# Altium schematic symbol library Schlib1.SchLib: 16 symbols
Pins are listed as number, name and electrical type; pins without a type are passive.

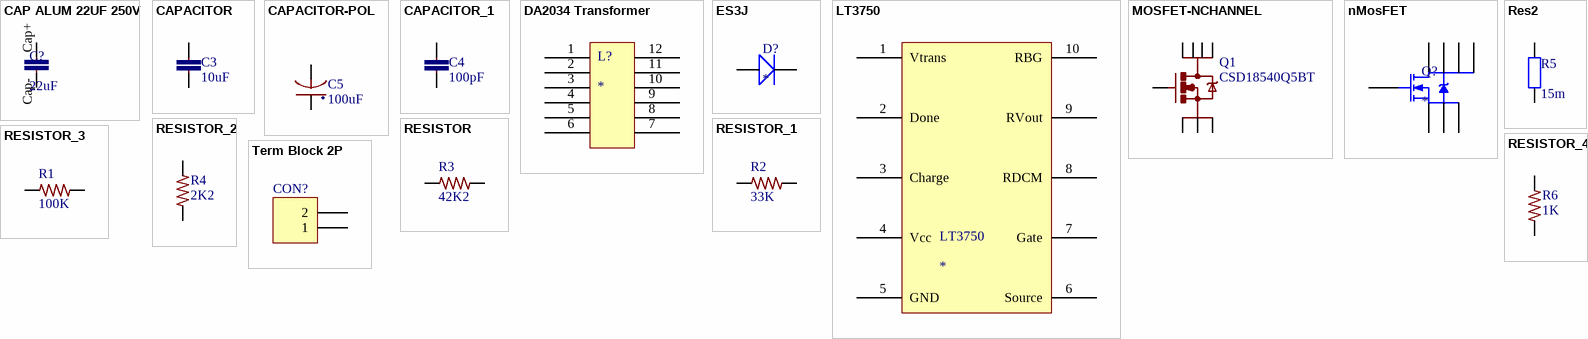
[diagram p0: symbols CAP ALUM 22UF 250V to Term Block 2P]

## CAP ALUM 22UF 250V
designator C?, comment 22uF
footprint CAP ALUM 22UF 250V (22uF)
pins: Cap+, Cap-

## CAPACITOR
designator C3, comment 10uF
CAP CER 10UF 16V X5R 0603; Part No: EMK107BBJ106MA-T; Cod EMS: 05.281.019.592; Value: 10uF
footprint CAPC0603(1608)55_L
simulation model Capacitor
pins: 1, 2

## CAPACITOR-POL
designator C5, comment 100uF
CAP ALUM 100UF 20% 80V SMD
footprint PCBComponent (Panasonic FK Series, Type V)
simulation model Capacitor
pins: 1 +, 2 -

## CAPACITOR_1
designator C4, comment 100pF
CAP CER 100PF 50V NP0 0603; Part No: GRM1885C1H101JA01D; Value: 100pF
footprint CAPC0603(1608)55_L
simulation model Capacitor
pins: 1, 2

## DA2034 Transformer
designator L?
footprint DA2034 Transformer
pins: 1, 2, 3, 4, 5, 6, 7, 8, 9, 10, 11, 12
1 alternate drawing of the same symbol

## ES3J
designator D?
footprint Diode
pins: D1+, D1-

## LT3750
designator LT3750
footprint LT3750
pins: 1 Vtrans, 2 Done, 3 Charge, 4 Vcc, 5 GND, 6 Source, 7 Gate, 8 RDCM, 9 RVout, 10 RBG

## MOSFET-NCHANNEL
designator Q1, comment CSD18540Q5BT
MOSFET N-CH 60V 100A 8VSON; Part No: CSD18540Q5BT
footprint PCBComponent
pins: 1 S, 2 S, 3 S, 4 G, 5 D, 6 D, 7 D, 8 D

## nMosFET
designator Q?
footprint nMOSFET
pins: 1 G, 2 D, 3 D, 4 D, 5 D, 6 S, 7 S, 8 S

## Res2
designator R5, comment 15m
Resistor; Published: 8-Jun-2000; LatestRevisionDate: 17-Jul-2002; LatestRevisionNote: Re-released for DXP Platform.; PackageReference: AXIAL-0.4; Publisher: Altium Limited; PackageDescription: Axial Device, Thru-Hole; 2 Leads; 0.4 in Pin Spacing; Value: 15m
simulation model RESISTOR (Resistor)
signal-integrity model Res
footprint R1206
footprint RES-1206
pins: 1, 2

## RESISTOR
designator R3, comment 42K2
RES 42.2K OHM 1/10W 1% 0402 SMD; Part No: ERJ-2RKF4222X; Value: 42.2K
simulation model SimModel1
footprint 0402-RES-HD (Chip Resistor, Body 1.0x0.5mm, IPC High Density)
pins: 1, 2

## RESISTOR_1
designator R2, comment 33K
RES 33K OHM 1/10W 1% 0402 SMD; Part No: ERJ-2RKF3302X; Cod EMS: 05.280.029.535; Family Description: RESISTOR FILME ESPESSO 10R-1M / 1/10W / 1% / 0402. P/N: ERJ-2RKF....X – PANASONIC ELECTRONIC COMPONENTS.; Value: 33K; Family: ERJ-2RKF....X
footprint 0402-RES-HD (Chip Resistor, Body 1.0x0.5mm, IPC High Density)
simulation model SimModel1
pins: 1, 2

## RESISTOR_2
designator R4, comment 2K2
RES 2.2K OHM 1/10W 1% 0402 SMD; Part No: ERJ-2RKF2201X; Cod EMS: 05.280.029.541; Family Description: RESISTOR FILME ESPESSO 10R-1M / 1/10W / 1% / 0402. P/N: ERJ-2RKF....X – PANASONIC ELECTRONIC COMPONENTS.; Value: 2.2K; Family: ERJ-2RKF....X
footprint 0402-RES-HD (Chip Resistor, Body 1.0x0.5mm, IPC High Density)
simulation model SimModel1
pins: 1, 2

## RESISTOR_3
designator R1, comment 100K
RES 100K OHM 1/10W 1% 0402 SMD 1; Part No: ERJ-2GEJ104X; Cod EMS: 05.280.029.504; Family Description: RESISTOR FILME ESPESSO 0R-1M / 1/10W / 5% /  0402. P/N: ERJ-2GE....X – PANASONIC ELECTRONIC COMPONENTS.; Family: ERJ-2GE....X; Value: 100k
footprint 0402-RES-HD (Chip Resistor, Body 1.0x0.5mm, IPC High Density)
pins: 1, 2

## RESISTOR_4
designator R6, comment 1K
RES SMD 1K OHM 1% 1/8W 0805; Part No: CRCW08051K00FKEA; Cod EMS: 05.280.029.555; Value: 1K
footprint 0805-RES (Chip Resistor, Body 2.0x1.3mm, IPC High Density)
simulation model SimModel1
pins: 1, 2

## Term Block 2P
designator CON?, comment OSTTA024163  (value not drawn)
2 Position Wire to Board Terminal Block Horizontal with Board 0.200" (5.08mm) Through Hole
footprint Term Block 2P
pins: 1, 2